# Altium integrated library 501951-3000.IntLib: 1 symbol
Pins are listed as number, name and electrical type; pins without a type are passive.

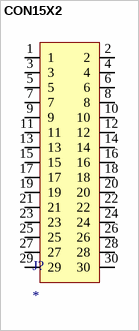
[diagram p0: symbol CON15X2]

## CON15X2
designator J?
ID: 501951-3000; PDF: http://www.molex.com/pdm_docs/sd/5019512400_sd.pdf; BUY_LINK: http://www.digikey.com/product-detail/en/501951-3000/WM6650CT-ND/2816160; PRICE: 1.73000
footprint 501951-3000
pins: 1, 2, 3, 4, 5, 6, 7, 8, 9, 10, 11, 12, 13, 14, 15, 16, 17, 18, 19, 20, 21, 22, 23, 24, 25, 26, 27, 28, 29, 30